# Altium integrated library NXP_I2C_Tiny Real_Time_Clock_Calendar.IntLib: 1 symbol
Pins are listed as number, name and electrical type; pins without a type are passive.

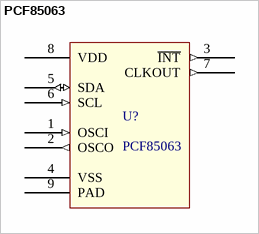
[diagram p0: symbol PCF85063]

## PCF85063
designator U?
Tiny Real-Time Clock/calendar; ComponentLink1Description: Datasheet; ComponentLink1URL: https://www.nxp.com/docs/en/data-sheet/PCF85063A.pdf
footprint SON9P50_200X300X80L40X24T150N - duplicate (Small Outline No-Lead (SON with Tab), 0.50 mm pitch; 8 pin, 2.00 mm L X 3.00 mm W X 0.80 mm H body)
pins: 1 OSCI (in) "oscillator input", 2 OSCO (out) "oscillator output", 3 ~{INT} (out) "interrupt output (open-drain)", 4 VSS (power) "ground supply voltage", 5 SDA (io) "serial data line", 6 SCL (in) "serial clock input", 7 CLKOUT (out) "clock output (push-pull)", 8 VDD (power) "supply voltage", 9 PAD (power) "The die paddle (exposed pad) is connected to VSS and should be electrically isolated"